# Altium footprint library alexsb.PCBLIB: 444 footprints (part 17 of 28)
Each footprint in its own frame and in the unit in brackets; x right, y up, seen from the top. Pads: shape width x height; smd on the part's side, far side on the other; paste and mask are expansions set on the pad; w line width, h text height; cw(c..) or ccw(c..) is an arc to the next point about the centre after c.
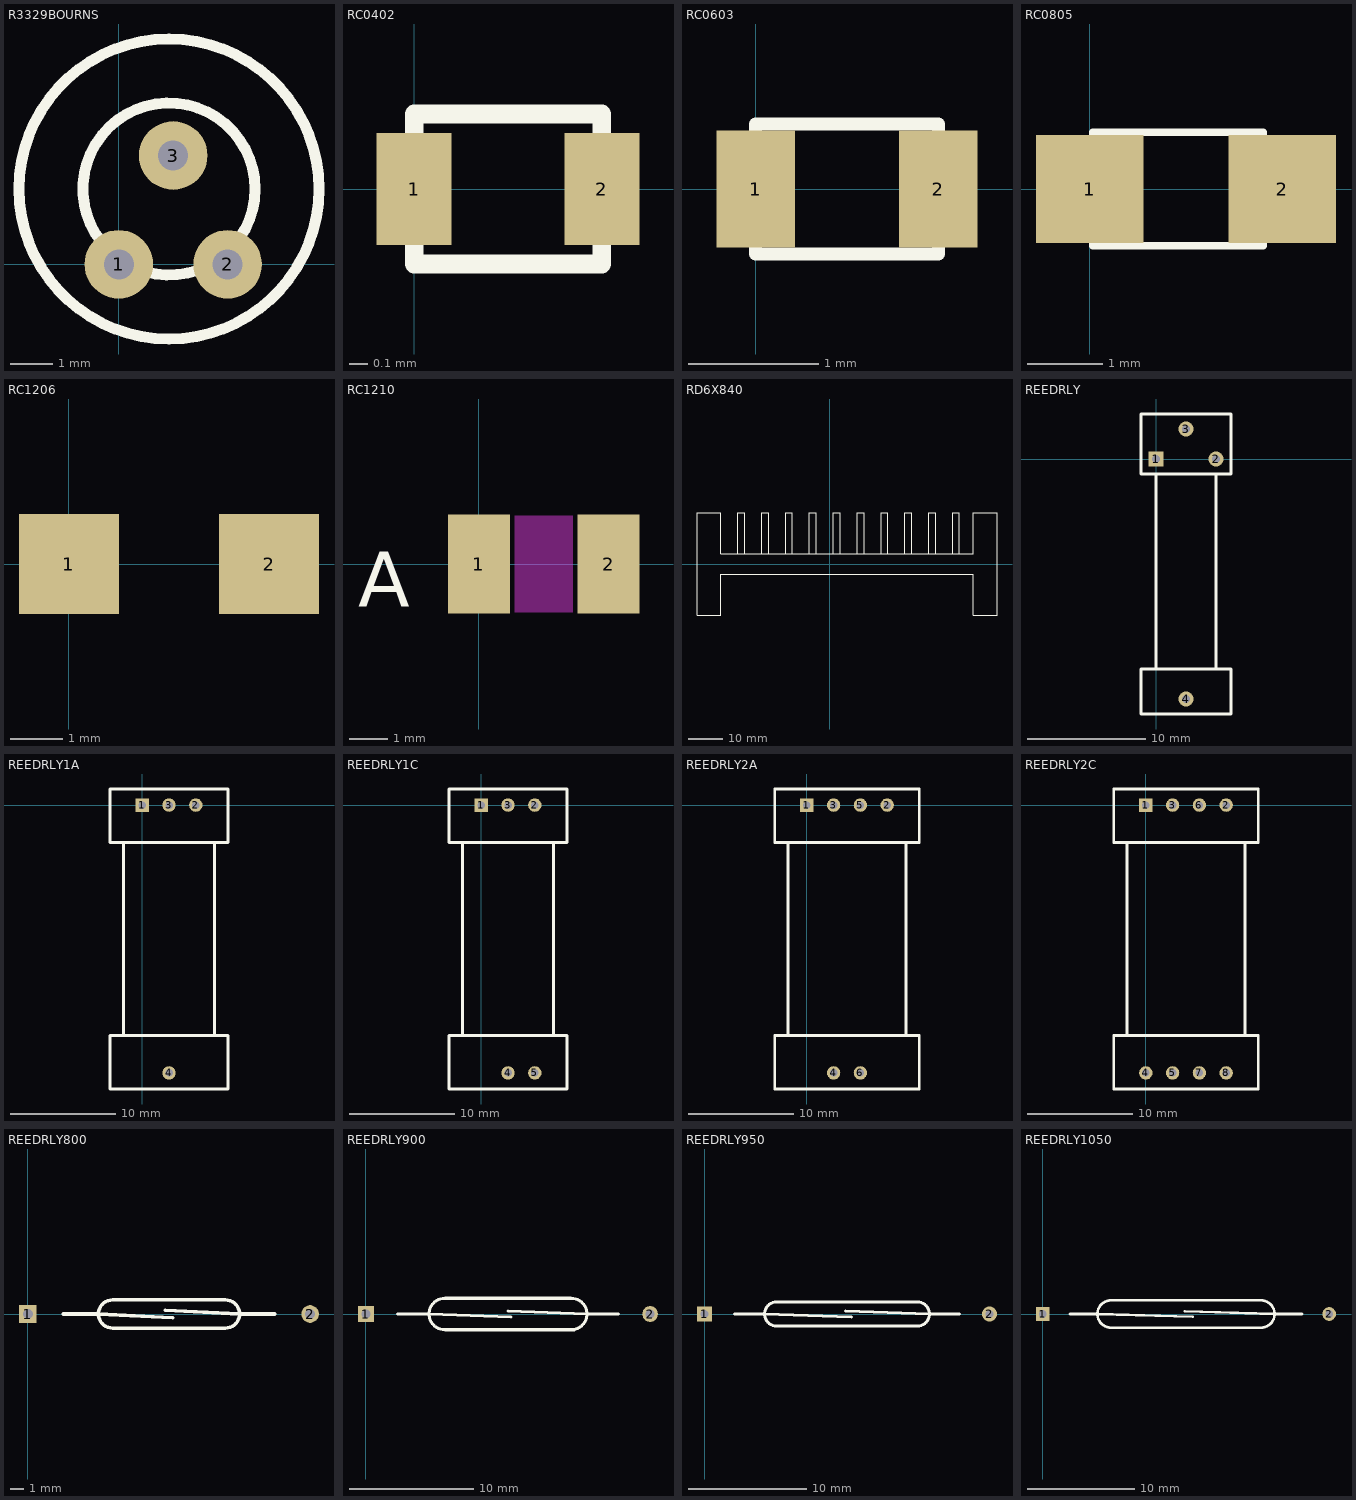
[diagram p16: the footprints below, top view; thin cyan lines are the x and y axes]

## R3329BOURNS [mm]
pads (3):
  round 1.6 hole 0.7: 1(0,0) 2(2.54,0) 3(1.27,2.54)
Top Overlay:
  circle w0.254: c1.172,1.758 r2.008
  circle w0.254: c1.172,1.758 r3.5

## RC0402 [mm]
pads (2):
  rect 0.4x0.6 smd: 1(0,0) 2(1,0)
Top Overlay:
  lines w0.1: 0,-0.4 0,0.4 1,0.4 1,-0.4 0,-0.4

## RC0603 [mm]
pads (2):
  rect 0.6x0.9 smd: 1(0,0) 2(1.4,0)
Top Overlay:
  lines w0.1: 0,-0.5 0,0.5 1.4,0.5 1.4,-0.5 0,-0.5

## RC0805 [mil]
pads (2):
  rect 56x56 smd: 1(0,0) 2(100,0)
Top Overlay:
  lines w3.94: 11.42,-29.53 11.42,29.53 ; 80.31,-29.53 80.31,29.53 ; 1.57,-29.53 1.57,29.53 90.16,29.53 90.16,-29.53 1.57,-29.53

## RC1206 [mm]
pads (2):
  rect 1.9x1.9 smd: 1(0,0) 2(3.81,0)

## RC1210 [mil]
pads (2):
  rect 64x102 smd: 1(0,0) 2(134,0)
Top Overlay:
  text "A" at -125,-44 h56.88
Multi-Layer keep-out:
  region: 97,-50 97,50 37,50 37,-50

## RD6X840 [mil]
Top Overlay:
  lines w10: -1062.99,118.11 -1062.99,590.55 -984.25,590.55 -984.25,118.11 ; -787.4,118.11 -787.4,590.55 -708.66,590.55 -708.66,118.11 ; -433.07,118.11 -433.07,590.55 -511.81,590.55 -511.81,118.11 ; -236.22,118.11 -236.22,590.55 -157.48,590.55 -157.48,118.11 ; 39.37,118.11 39.37,590.55 118.11,590.55 118.11,118.11 ; 314.96,118.11 314.96,590.55 393.7,590.55 393.7,118.11 ; 590.55,118.11 590.55,590.55 669.29,590.55 669.29,118.11 ; 866.14,118.11 866.14,590.55 944.88,590.55 944.88,118.11 ; 1141.73,118.11 1141.73,590.55 1220.47,590.55 1220.47,118.11 ; 1417.32,118.11 1417.32,590.55 1496.06,590.55 1496.06,118.11 ; -511.81,118.11 1653.54,118.11 1653.54,590.55 1929.13,590.55 1929.13,118.11 1929.13,-118.11 1929.13,-590.55 1653.54,-590.55 1653.54,-118.11 1259.84,-118.11 -1259.84,-118.11 -1259.84,-590.55 -1535.43,-590.55 -1535.43,590.55 -1259.84,590.55 -1259.84,118.11 -511.81,118.11

## REEDRLY [mil]
pads (4):
  rect 50x50 hole 28: 1(0,0)
  round 50 hole 28: 2(200,0) 3(100,100) 4(100,-800)
Top Overlay:
  lines w10: 0,-700 0,-50 ; 200,-700 200,-50 ; -50,-850 -50,-700 250,-700 250,-850 -50,-850 ; -50,-50 -50,150 250,150 250,-50 -50,-50

## REEDRLY1A [mil]
pads (4):
  rect 50x50 hole 28: 1(0,0)
  round 50 hole 28: 2(200,0) 3(100,0) 4(100,-1000)
Top Overlay:
  lines w10: -70,-860 -70,-140 ; 270,-860 270,-140 ; -120,-1060 320,-1060 320,-860 -120,-860 -120,-1060 ; -120,-140 -120,60 320,60 320,-140 -120,-140

## REEDRLY1C [mil]
pads (5):
  rect 50x50 hole 28: 1(0,0)
  round 50 hole 28: 2(200,0) 3(100,0) 4(100,-1000) 5(200,-1000)
Top Overlay:
  lines w10: -70,-860 -70,-140 ; 270,-860 270,-140 ; -120,-1060 320,-1060 320,-860 -120,-860 -120,-1060 ; -120,-140 320,-140 320,60 -120,60 -120,-140

## REEDRLY2A [mil]
pads (6):
  rect 50x50 hole 28: 1(0,0)
  round 50 hole 28: 2(300,0) 3(100,0) 4(100,-1000) 5(200,0) 6(200,-1000)
Top Overlay:
  lines w10: -70,-860 -70,-140 ; 370,-860 370,-140 ; -120,-1060 420,-1060 420,-860 -120,-860 -120,-1060 ; -120,-140 420,-140 420,60 -120,60 -120,-140

## REEDRLY2C [mil]
pads (8):
  rect 50x50 hole 28: 1(0,0)
  round 50 hole 28: 2(300,0) 3(100,0) 4(0,-1000) 5(100,-1000) 6(200,0) 7(200,-1000) 8(300,-1000)
Top Overlay:
  lines w10: -70,-860 -70,-140 ; 370,-860 370,-140 ; -120,-1060 -120,-860 420,-860 420,-1060 -120,-1060 ; -120,-140 -120,60 420,60 420,-140 -120,-140

## REEDRLY800 [mil]
pads (2):
  rect 50x50 hole 28: 1(0,0)
  round 50 hole 28: 2(800,0)
Top Overlay:
  lines w10: 100,0 200,0 410,-10 ; 390,10 600,0 700,0 ; 240,-40 cw(c240,0) 240,40 560,40 cw(c560,0) 560,-40 240,-40

## REEDRLY900 [mil]
pads (2):
  rect 50x50 hole 28: 1(0,0)
  round 50 hole 28: 2(900,0)
Top Overlay:
  lines w10: 100,0 200,0 460,-10 ; 450,10 700,0 800,0 ; 650,-50 ccw(c650,0) 650,50 250,50 ccw(c250,0) 250,-50 660,-50

## REEDRLY950 [mil]
pads (2):
  rect 50x50 hole 28: 1(0,0)
  round 50 hole 28: 2(950,0)
Top Overlay:
  lines w10: 100,0 200,0 490,-10 ; 470,10 750,0 850,0 ; 240,-40 cw(c240,0) 240,40 710,40 cw(c710,0) 710,-40 240,-40

## REEDRLY1050 [mil]
pads (2):
  rect 50x50 hole 28: 1(0,0)
  round 50 hole 28: 2(1050,0)
Top Overlay:
  lines w10: 100,0 200,0 550,-10 ; 520,10 850,0 950,0 ; 250,-50 cw(c250,0) 250,50 800,50 cw(c800,0) 800,-50 250,-50